# Altium footprint library RUF-Dispositivos-Grales.PcbLib: 97 footprints (part 5 of 7)
Each footprint in its own frame and in the unit in brackets; x right, y up, seen from the top. Pads: shape width x height; smd on the part's side, far side on the other; paste and mask are expansions set on the pad; w line width, h text height; cw(c..) or ccw(c..) is an arc to the next point about the centre after c.
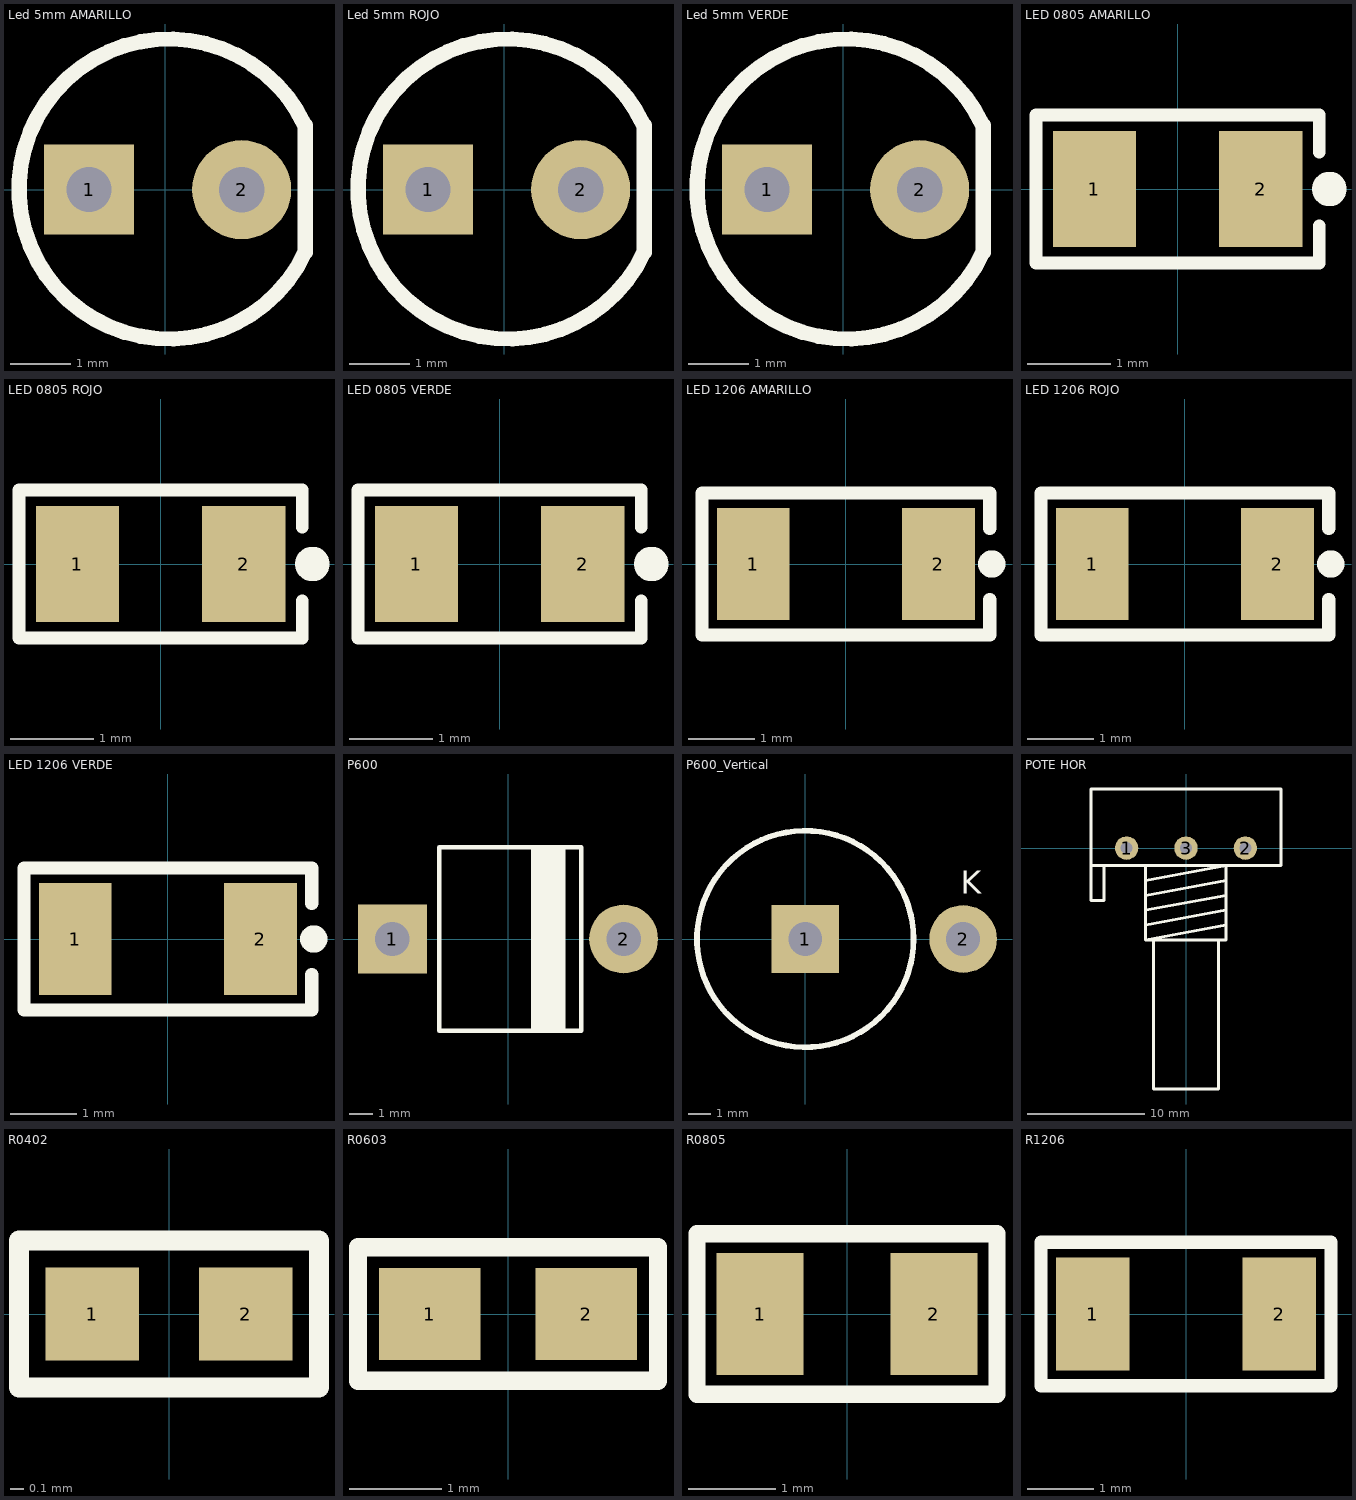
[diagram p4: the footprints below, top view; thin cyan lines are the x and y axes]

## Led 5mm AMARILLO [mm]
pads (2):
  rect 1.5x1.5 hole 0.75: 1(-1.27,0)
  round 1.651 hole 0.762: 2(1.27,0)
Top Overlay:
  lines w0.254: 2.323,1.072 ccw(c0.059,0.011) 2.324,-1.047 ; 2.33,-1.047 2.33,1.072
3D body: height 12.51, standoff -2.29, extent -2.98,-3.01 2.44,3.01

## Led 5mm ROJO [mm]
pads (2):
  rect 1.5x1.5 hole 0.75: 1(-1.27,0)
  round 1.651 hole 0.762: 2(1.27,0)
Top Overlay:
  lines w0.254: 2.323,1.072 ccw(c0.059,0.011) 2.324,-1.047 ; 2.33,-1.047 2.33,1.072
3D body: height 12.51, standoff -2.29, extent -2.98,-3.01 2.44,3.01

## Led 5mm VERDE [mm]
pads (2):
  rect 1.5x1.5 hole 0.75: 1(-1.27,0)
  round 1.651 hole 0.762: 2(1.27,0)
Top Overlay:
  lines w0.254: 2.323,1.072 ccw(c0.059,0.011) 2.324,-1.047 ; 2.33,-1.047 2.33,1.072
3D body: height 12.51, standoff -2.29, extent -2.98,-3.01 2.44,3.01

## LED 0805 AMARILLO [mm]
pads (2):
  rect 1x1.4 smd: 1(-1,0) 2(1,0)
Top Overlay:
  circle w0.254: c1.825,0 r0.08
  lines w0.152: 1.702,-0.445 1.702,-0.889 -1.702,-0.889 -1.702,0.889 1.702,0.889 1.702,0.445
3D body: height 0.85, standoff 0.01, extent -0.955,-0.449 1.107,0.457

## LED 0805 ROJO [mm]
pads (2):
  rect 1x1.4 smd: 1(-1,0) 2(1,0)
Top Overlay:
  circle w0.254: c1.825,0 r0.08
  lines w0.152: 1.702,-0.445 1.702,-0.889 -1.702,-0.889 -1.702,0.889 1.702,0.889 1.702,0.445
3D body: height 0.85, standoff 0.01, extent -0.955,-0.449 1.107,0.457

## LED 0805 VERDE [mm]
pads (2):
  rect 1x1.4 smd: 1(-1,0) 2(1,0)
Top Overlay:
  circle w0.254: c1.825,0 r0.08
  lines w0.152: 1.702,-0.445 1.702,-0.889 -1.702,-0.889 -1.702,0.889 1.702,0.889 1.702,0.445
3D body: height 0.85, standoff 0.01, extent -0.955,-0.449 1.107,0.457

## LED 1206 AMARILLO [mm]
pads (2):
  rect 1.1x1.7 smd: 1(-1.4,0) 2(1.4,0)
Top Overlay:
  circle w0.254: c2.206,0 r0.08
  lines w0.2: 2.175,-0.537 2.175,-1.075 -2.175,-1.075 -2.175,1.075 2.175,1.075 2.175,0.537
3D body: height 1.11, standoff -0.4, extent -1.6,-0.8 1.6,0.8

## LED 1206 ROJO [mm]
pads (2):
  rect 1.1x1.7 smd: 1(-1.4,0) 2(1.4,0)
Top Overlay:
  circle w0.254: c2.206,0 r0.08
  lines w0.2: 2.175,-0.537 2.175,-1.075 -2.175,-1.075 -2.175,1.075 2.175,1.075 2.175,0.537
3D body: height 1.11, standoff -0.4, extent -1.6,-0.8 1.6,0.8

## LED 1206 VERDE [mm]
pads (2):
  rect 1.1x1.7 smd: 1(-1.4,0) 2(1.4,0)
Top Overlay:
  circle w0.254: c2.206,0 r0.08
  lines w0.2: 2.175,-0.537 2.175,-1.075 -2.175,-1.075 -2.175,1.075 2.175,1.075 2.175,0.537
3D body: height 1.11, standoff -0.4, extent -1.6,-0.8 1.6,0.8

## P600 [mm]
pads (2):
  rect 3x3 hole 1.5: 1(-5.04,0)
  round 3 hole 1.5: 2(5.04,0)
Top Overlay:
  region: 2.5,4 1,4 1,-4 2.5,-4
  lines w0.2: -3,-4 -3,4 3.2,4 3.2,-4 -3,-4
3D body: height 3.5, standoff -8.6, extent -5.63,-4.1 5.73,4.1

## P600_Vertical [mm]
pads (2):
  rect 3x3 hole 1.5: 1(0,0)
  round 3 hole 1.5: 2(7,0)
Top Overlay:
  circle w0.254: c0,0 r4.8
  text "K" at 6.9,2 h1.02
3D body: height 13.27, standoff -3.35, extent -4.56,-4.56 7.635,4.56

## POTE HOR [mm]
pads (3):
  round 2 hole 1: 1(-5.08,0) 2(5.08,0) 3(0,0)
Top Overlay:
  lines w0.254: -7.028,-1.5 -7.028,-4.5 -8.128,-4.5 -8.128,-1.5 ; -3.443,-6.58 3.415,-5.31 ; -3.443,-5.31 3.415,-4.04 ; -3.443,-4.04 3.415,-2.77 ; -3.443,-2.77 3.415,-1.5 3.415,-7.85 -3.443,-7.85 ; -3.443,-1.5 -3.443,-7.85 ; -2.794,-7.85 -2.794,-20.6 2.794,-20.6 2.794,-7.85 ; 3.415,-6.58 -3.443,-7.85 ; -8.128,-1.5 8.128,-1.5 8.128,5.05 -8.128,5.05 -8.128,-1.5
3D body: height 20.62, standoff -4, extent -7.874,-20.732 7.874,4.826

## R0402 [mm] "Chip Capacitor; Body 1.0 x 0.5 mm (LxW typ)"
height 0.55
pads (2):
  rect 0.7x0.7 smd: 1(-0.575,0) 2(0.575,0)
Top Overlay:
  lines w0.15: -1.125,-0.55 -1.125,0.55 1.125,0.55 1.125,-0.55 -1.125,-0.55
3D body: height 0.38, standoff 0, extent -0.5,-0.25 0.5,0.25

## R0603 [mm] "Chip Capacitor; Body 1.6 x 0.8 mm (LxW typ)"
height 0.87
pads (2):
  rect 1.1x1 smd: 1(-0.85,0) 2(0.85,0)
Top Overlay:
  lines w0.2: -1.625,-0.725 1.625,-0.725 1.625,0.725 -1.625,0.725 -1.625,-0.725
3D body: height 0.5, standoff 0, extent -0.8,-0.4 0.8,0.4

## R0805 [mm]
pads (2):
  rect 1x1.4 smd: 1(-1,0) 2(1,0)
Top Overlay:
  lines w0.2: -1.725,-0.925 1.725,-0.925 1.725,0.925 -1.725,0.925 -1.725,-0.925
3D body: height 0.5, standoff 0, extent -1,-0.6 1,0.6

## R1206 [mm] "Chip Capacitor; Body 3.2 x 1.5 mm (LxW typ)"
height 1.5
pads (2):
  rect 1.1x1.7 smd: 1(-1.4,0) 2(1.4,0)
Top Overlay:
  lines w0.2: -2.175,-1.075 -2.175,1.075 2.175,1.075 2.175,-1.075 -2.175,-1.075
3D body: height 0.6, standoff 0, extent -1.6,-0.8 1.6,0.8